# Altium footprint library 2019-03-18_23-09-35.PcbLib: 3 footprints
Each footprint in its own frame and in the unit in brackets; x right, y up, seen from the top. Pads: shape width x height; smd on the part's side, far side on the other; paste and mask are expansions set on the pad; w line width, h text height; cw(c..) or ccw(c..) is an arc to the next point about the centre after c.
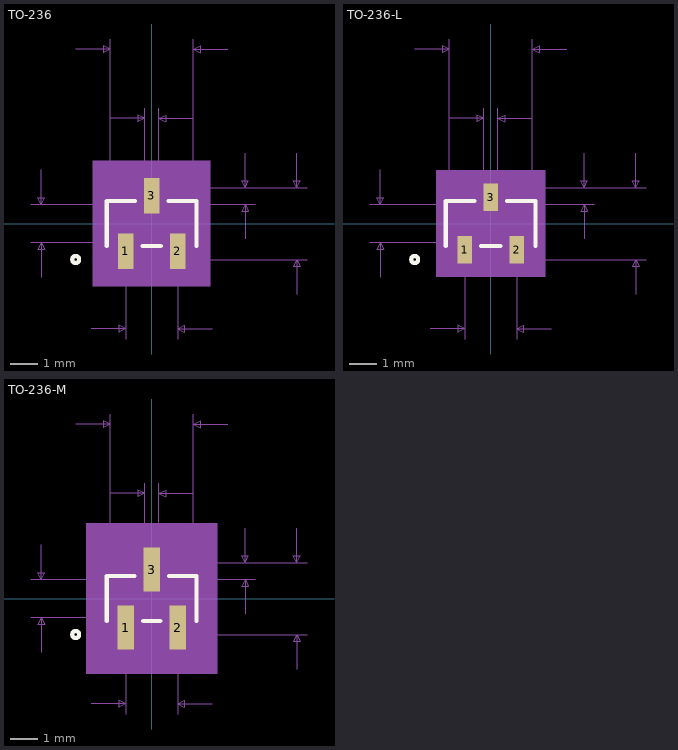
[diagram p0: the footprints below, top view; thin cyan lines are the x and y axes]

## TO-236 [mil]
pads (3):
  rect 22.36x51.56 smd paste+0 mask+0: 1(-37.4,-40) 2(37.4,-40) 3(0,40)
Top Overlay:
  circle w6: c-110,-52 r5
  lines w6: -65,-32.5 -65,32.5 -24.28,32.5 ; -13.12,-32.5 13.12,-32.5 ; 24.28,32.5 65,32.5 65,-32.5
Mechanical 5:
  region: -85,90.78 85,90.78 85,-90.78 -85,-90.78
Mechanical 7:
  lines w1: -175,-27.5 0,-27.5 ; -175,27.5 0,27.5 ; -160,-77.5 -160,-27.5 ; -160,77.5 -160,27.5 ; -110,252 -60,252 ; -87.4,-152 -37.4,-152 ; -60,27.5 -60,267 ; -60,152 -10,152 ; -37.4,-167 -37.4,-52 ; -10,52 -10,167 ; 0,-52 225,-52 ; 0,28 150,28 ; 10,52 10,167 ; 37.4,-167 37.4,-52 ; 60,27.5 60,267 ; 60,152 10,152 ; 87.4,-152 37.4,-152 ; 110,252 60,252 ; 135,-22 135,28 ; 135,102 135,52 ; 150,52 0,52 225,52 ; 210,-102 210,-52 ; 210,102 210,52 ; -160,-27.5 -165,-37.5 -155,-37.5 -160,-27.5 ; -160,27.5 -165,37.5 -155,37.5 -160,27.5 ; -60,252 -70,257 -70,247 -60,252 ; -37.4,-152 -47.4,-147 -47.4,-157 -37.4,-152 ; -10,152 -20,157 -20,147 -10,152 ; 10,152 20,157 20,147 10,152 ; 37.4,-152 47.4,-147 47.4,-157 37.4,-152 ; 60,252 70,257 70,247 60,252 ; 135,28 130,18 140,18 135,28 ; 135,52 130,62 140,62 135,52 ; 210,-52 205,-62 215,-62 210,-52 ; 210,52 205,62 215,62 210,52
  text "Top Padstyle: r57_131" at -262.5,-315.78 h50
  text "Bottom Padstyle: r57_131" at -300,-390.78 h50
  text "Alt 1 Padstyle: b152_229h76" at -337.5,-465.78 h50
  text "Alt 2 Padstyle: b229_152h76" at -337.5,-540.78 h50
  text "0.104in/2.642mm" at 230,-12.5 h25
  text "0.024in/0.61mm" at 155,27.5 h25
  text "0.075in/1.9mm" at -81.25,-197 h25
  text "0.02in/0.508mm" at -87.5,172 h25
  text "0.12in/3.048mm" at -87.5,272 h25
  text "0.055in/1.397mm" at -367.5,-12.5 h25
Mechanical 13:
  circle w0: c-50,-17.5 r5
  lines w1: -60,-27.5 60,-27.5 60,27.5 -60,27.5 -60,-27.5 ; -47.4,-52 -47.4,-27.5 -27.4,-27.5 -27.4,-52 -47.4,-52 ; -10,27.5 10,27.5 10,52 -10,52 -10,27.5 ; 27.4,-52 27.4,-27.5 47.4,-27.5 47.4,-52 27.4,-52
Mechanical 15:
  region: -70,-37.5 -70,37.5 -20,37.5 -20,75.78 20,75.78 20,37.5 70,37.5 70,-37.5 57.4,-37.5 57.4,-75.78 -57.4,-75.78 -57.4,-37.5
  region: 60,-27.5 -60,-27.5 -60,27.5 60,27.5
  lines w6: -70,-37.5 -70,37.5 -20,37.5 -20,75.78 20,75.78 20,37.5 70,37.5 70,-37.5 57.4,-37.5 57.4,-75.78 -57.4,-75.78 -57.4,-37.5 -70,-37.5
3D body: height 10, standoff 0, extent 0,0 10,10

## TO-236-L [mm]
pads (3):
  rect 0.528x1.01 smd paste+0 mask+0: 1(-0.95,-0.966) 2(0.95,-0.966) 3(0,0.966)
Top Overlay:
  circle w0.152: c-2.794,-1.321 r0.127
  lines w0.152: -1.651,-0.826 -1.651,0.826 -0.597,0.826 ; -0.353,-0.826 0.353,-0.826 ; 0.597,0.826 1.651,0.826 1.651,-0.826
Mechanical 5:
  region: -2.007,1.953 2.007,1.953 2.007,-1.953 -2.007,-1.953
Mechanical 7:
  lines w0.025: -4.445,-0.699 0,-0.699 ; -4.445,0.699 0,0.699 ; -4.064,-1.968 -4.064,-0.699 ; -4.064,1.968 -4.064,0.699 ; -2.794,6.401 -1.524,6.401 ; -2.22,-3.861 -0.95,-3.861 ; -1.524,0.699 -1.524,6.782 ; -1.524,3.861 -0.254,3.861 ; -0.95,-4.242 -0.95,-1.321 ; -0.254,1.321 -0.254,4.242 ; 0,-1.321 5.715,-1.321 ; 0,0.711 3.81,0.711 ; 0.254,1.321 0.254,4.242 ; 0.95,-4.242 0.95,-1.321 ; 1.524,0.699 1.524,6.782 ; 1.524,3.861 0.254,3.861 ; 2.22,-3.861 0.95,-3.861 ; 2.794,6.401 1.524,6.401 ; 3.429,-0.559 3.429,0.711 ; 3.429,2.591 3.429,1.321 ; 3.81,1.321 0,1.321 5.715,1.321 ; 5.334,-2.591 5.334,-1.321 ; 5.334,2.591 5.334,1.321 ; -4.064,-0.699 -4.191,-0.953 -3.937,-0.953 -4.064,-0.699 ; -4.064,0.699 -4.191,0.953 -3.937,0.953 -4.064,0.699 ; -1.524,6.401 -1.778,6.528 -1.778,6.274 -1.524,6.401 ; -0.95,-3.861 -1.204,-3.734 -1.204,-3.988 -0.95,-3.861 ; -0.254,3.861 -0.508,3.988 -0.508,3.734 -0.254,3.861 ; 0.254,3.861 0.508,3.988 0.508,3.734 0.254,3.861 ; 0.95,-3.861 1.204,-3.734 1.204,-3.988 0.95,-3.861 ; 1.524,6.401 1.778,6.528 1.778,6.274 1.524,6.401 ; 3.429,0.711 3.302,0.457 3.556,0.457 3.429,0.711 ; 3.429,1.321 3.302,1.575 3.556,1.575 3.429,1.321 ; 5.334,-1.321 5.207,-1.575 5.461,-1.575 5.334,-1.321 ; 5.334,1.321 5.207,1.575 5.461,1.575 5.334,1.321
  text "Top Padstyle: r53_101" at -6.667,-7.821 h1.27
  text "Bottom Padstyle: r53_101" at -7.62,-9.726 h1.27
  text "Alt 1 Padstyle: b152_229h76" at -8.572,-11.631 h1.27
  text "Alt 2 Padstyle: b229_152h76" at -8.572,-13.536 h1.27
  text "0.104in/2.642mm" at 5.842,-0.318 h0.64
  text "0.024in/0.61mm" at 3.937,0.699 h0.64
  text "0.075in/1.9mm" at -2.064,-5.004 h0.64
  text "0.02in/0.508mm" at -2.222,4.369 h0.64
  text "0.12in/3.048mm" at -2.222,6.909 h0.64
  text "0.055in/1.397mm" at -9.335,-0.318 h0.64
Mechanical 13:
  circle w0: c-1.27,-0.445 r0.127
  lines w0.025: -1.524,-0.699 1.524,-0.699 1.524,0.699 -1.524,0.699 -1.524,-0.699 ; -1.204,-1.321 -1.204,-0.699 -0.696,-0.699 -0.696,-1.321 -1.204,-1.321 ; -0.254,0.699 0.254,0.699 0.254,1.321 -0.254,1.321 -0.254,0.699 ; 0.696,-1.321 0.696,-0.699 1.204,-0.699 1.204,-1.321 0.696,-1.321
Mechanical 15:
  region: -1.626,-0.8 -1.626,0.8 -0.356,0.8 -0.356,1.572 0.356,1.572 0.356,0.8 1.626,0.8 1.626,-0.8 1.306,-0.8 1.306,-1.572 -1.306,-1.572 -1.306,-0.8
  region: 1.524,-0.699 -1.524,-0.699 -1.524,0.699 1.524,0.699
  lines w0.152: -1.626,-0.8 -1.626,0.8 -0.356,0.8 -0.356,1.572 0.356,1.572 0.356,0.8 1.626,0.8 1.626,-0.8 1.306,-0.8 1.306,-1.572 -1.306,-1.572 -1.306,-0.8 -1.626,-0.8
3D body: height 0.25, standoff 0, extent 0,0 0.254,0.254

## TO-236-M [mm]
pads (3):
  rect 0.608x1.61 smd paste+0 mask+0: 1(-0.95,-1.066) 2(0.95,-1.066) 3(0,1.066)
Top Overlay:
  circle w0.152: c-2.794,-1.321 r0.127
  lines w0.152: -1.651,-0.826 -1.651,0.826 -0.637,0.826 ; -0.313,-0.826 0.313,-0.826 ; 0.637,0.826 1.651,0.826 1.651,-0.826
Mechanical 5:
  region: -2.413,2.76 2.413,2.76 2.413,-2.76 -2.413,-2.76
Mechanical 7:
  lines w0.025: -4.445,-0.699 0,-0.699 ; -4.445,0.699 0,0.699 ; -4.064,-1.968 -4.064,-0.699 ; -4.064,1.968 -4.064,0.699 ; -2.794,6.401 -1.524,6.401 ; -2.22,-3.861 -0.95,-3.861 ; -1.524,0.699 -1.524,6.782 ; -1.524,3.861 -0.254,3.861 ; -0.95,-4.242 -0.95,-1.321 ; -0.254,1.321 -0.254,4.242 ; 0,-1.321 5.715,-1.321 ; 0,0.711 3.81,0.711 ; 0.254,1.321 0.254,4.242 ; 0.95,-4.242 0.95,-1.321 ; 1.524,0.699 1.524,6.782 ; 1.524,3.861 0.254,3.861 ; 2.22,-3.861 0.95,-3.861 ; 2.794,6.401 1.524,6.401 ; 3.429,-0.559 3.429,0.711 ; 3.429,2.591 3.429,1.321 ; 3.81,1.321 0,1.321 5.715,1.321 ; 5.334,-2.591 5.334,-1.321 ; 5.334,2.591 5.334,1.321 ; -4.064,-0.699 -4.191,-0.953 -3.937,-0.953 -4.064,-0.699 ; -4.064,0.699 -4.191,0.953 -3.937,0.953 -4.064,0.699 ; -1.524,6.401 -1.778,6.528 -1.778,6.274 -1.524,6.401 ; -0.95,-3.861 -1.204,-3.734 -1.204,-3.988 -0.95,-3.861 ; -0.254,3.861 -0.508,3.988 -0.508,3.734 -0.254,3.861 ; 0.254,3.861 0.508,3.988 0.508,3.734 0.254,3.861 ; 0.95,-3.861 1.204,-3.734 1.204,-3.988 0.95,-3.861 ; 1.524,6.401 1.778,6.528 1.778,6.274 1.524,6.401 ; 3.429,0.711 3.302,0.457 3.556,0.457 3.429,0.711 ; 3.429,1.321 3.302,1.575 3.556,1.575 3.429,1.321 ; 5.334,-1.321 5.207,-1.575 5.461,-1.575 5.334,-1.321 ; 5.334,1.321 5.207,1.575 5.461,1.575 5.334,1.321
  text "Top Padstyle: r61_161" at -6.667,-8.221 h1.27
  text "Bottom Padstyle: r61_161" at -7.62,-10.126 h1.27
  text "Alt 1 Padstyle: b152_229h76" at -8.572,-12.031 h1.27
  text "Alt 2 Padstyle: b229_152h76" at -8.572,-13.936 h1.27
  text "0.104in/2.642mm" at 5.842,-0.318 h0.64
  text "0.024in/0.61mm" at 3.937,0.699 h0.64
  text "0.075in/1.9mm" at -2.064,-5.004 h0.64
  text "0.02in/0.508mm" at -2.222,4.369 h0.64
  text "0.12in/3.048mm" at -2.222,6.909 h0.64
  text "0.055in/1.397mm" at -9.335,-0.318 h0.64
Mechanical 13:
  circle w0: c-1.27,-0.445 r0.127
  lines w0.025: -1.524,-0.699 1.524,-0.699 1.524,0.699 -1.524,0.699 -1.524,-0.699 ; -1.204,-1.321 -1.204,-0.699 -0.696,-0.699 -0.696,-1.321 -1.204,-1.321 ; -0.254,0.699 0.254,0.699 0.254,1.321 -0.254,1.321 -0.254,0.699 ; 0.696,-1.321 0.696,-0.699 1.204,-0.699 1.204,-1.321 0.696,-1.321
Mechanical 15:
  region: -2.032,-1.206 -2.032,1.206 -0.762,1.206 -0.762,2.379 0.762,2.379 0.762,1.206 2.032,1.206 2.032,-1.206 1.712,-1.206 1.712,-2.379 -1.712,-2.379 -1.712,-1.206
  region: 1.524,-0.699 -1.524,-0.699 -1.524,0.699 1.524,0.699
  lines w0.152: -2.032,-1.206 -2.032,1.206 -0.762,1.206 -0.762,2.379 0.762,2.379 0.762,1.206 2.032,1.206 2.032,-1.206 1.712,-1.206 1.712,-2.379 -1.712,-2.379 -1.712,-1.206 -2.032,-1.206
3D body: height 0.25, standoff 0, extent 0,0 0.254,0.254